# Altium footprint library SOW-14-DWK.PcbLib: 1 footprints
Each footprint in its own frame and in the unit in brackets; x right, y up, seen from the top. Pads: shape width x height; smd on the part's side, far side on the other; paste and mask are expansions set on the pad; w line width, h text height; cw(c..) or ccw(c..) is an arc to the next point about the centre after c.
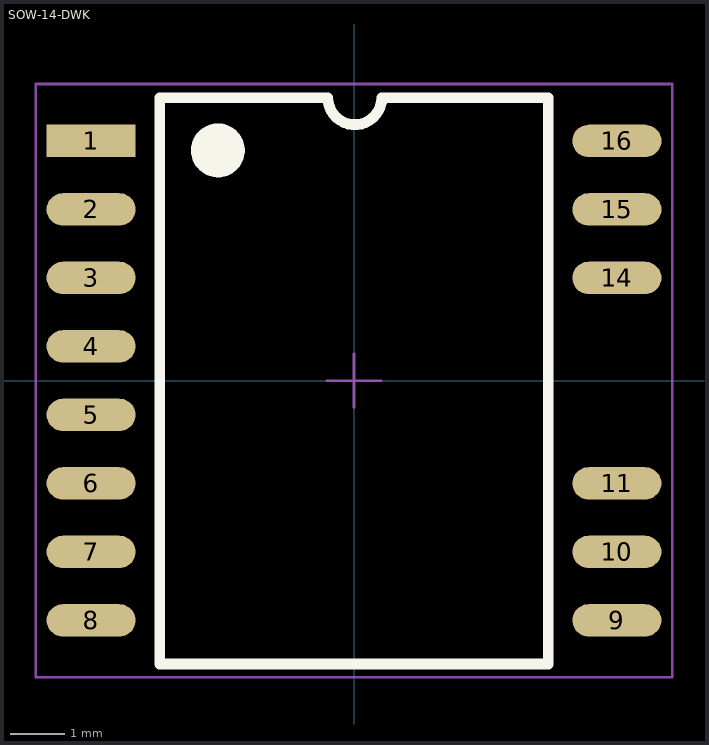
[diagram p0: the footprint, top view; thin cyan lines are the x and y axes]

## SOW-14-DWK [mm] "TI DWK Package"
pads (14):
  rect 1.65x0.6 smd: 1(-4.875,4.445)
  oval 1.65x0.6 smd: 2(-4.875,3.175) 3(-4.875,1.905) 4(-4.875,0.635) 5(-4.875,-0.635) 6(-4.875,-1.905) 7(-4.875,-3.175) 8(-4.875,-4.445) 9(4.875,-4.445) 10(4.875,-3.175) 11(4.875,-1.905) 14(4.875,1.905) 15(4.875,3.175) 16(4.875,4.445)
Top Overlay:
  circle w0.5: c-2.525,4.27 r0.25
  lines w0.2: -0.5,5.245 -3.6,5.245 -3.6,-5.255 3.6,-5.255 3.6,5.245 0.525,5.245 ; -0.485,5.245 ccw(c0.015,5.245) 0.515,5.245
Mechanical 15:
  lines w0.05: -0.5,0 0.5,0 ; 0,-0.5 0,0.5 ; -5.9,-5.5 5.9,-5.5 5.9,5.5 -5.9,5.5 -5.9,-5.5
3D body: height 2.65, standoff 0, extent -3.7,-5.255 3.7,5.245